# EAGLE library part 29F800 (library ML497A)
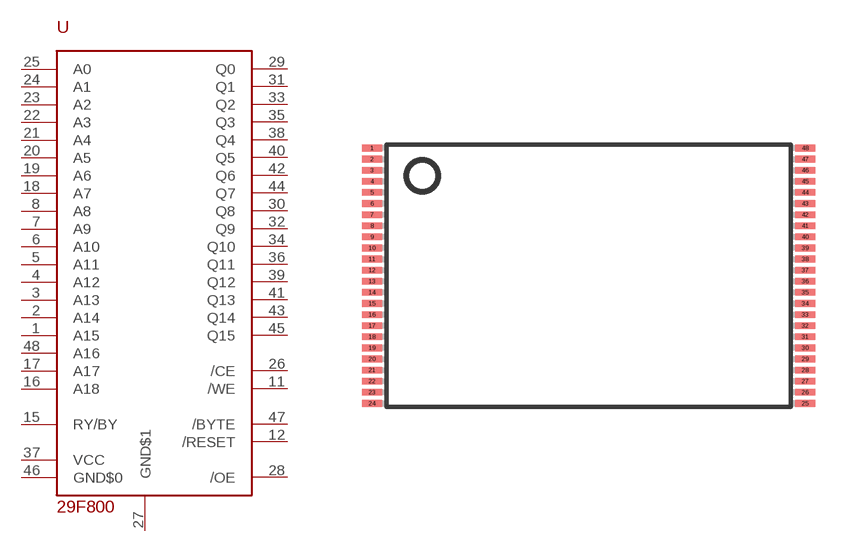
[diagram p3: symbol with the pads of TSOP48; footprint TSOP48]

Designator prefix -

## 29F800  [TSOP48]
1  A15
2  A14
3  A13
4  A12
5  A11
6  A10
7  A9
8  A8
11  /WE
12  /RESET
15  RY/BY
16  A18
17  A17
18  A7
19  A6
20  A5
21  A4
22  A3
23  A2
24  A1
25  A0
26  /CE
27  GND$1
28  /OE
29  Q0
30  Q8
31  Q1
32  Q9
33  Q2
34  Q10
35  Q3
36  Q11
37  VCC
38  Q4
39  Q12
40  Q5
41  Q13
42  Q6
43  Q14
44  Q7
45  Q15
46  GND$0
47  /BYTE
48  A16

## Footprint TSOP48 (pad centres in mm)
smd 0.9 x 0.3: 1 -5.94,5.75; 2 -5.94,5.25; 3 -5.94,4.75; 4 -5.94,4.25; 5 -5.94,3.75; 6 -5.94,3.25; 7 -5.94,2.75; 8 -5.94,2.25; 9 -5.94,1.75; 10 -5.94,1.25; 11 -5.94,0.75; 12 -5.94,0.25; 13 -5.94,-0.25; 14 -5.94,-0.75; 15 -5.94,-1.25; 16 -5.94,-1.75; 17 -5.94,-2.25; 18 -5.94,-2.75; 19 -5.94,-3.25; 20 -5.94,-3.75; 21 -5.94,-4.25; 22 -5.94,-4.75; 23 -5.94,-5.25; 24 -5.94,-5.75; 25 13.56,-5.75; 26 13.56,-5.25; 27 13.56,-4.75; 28 13.56,-4.25; 29 13.56,-3.75; 30 13.56,-3.25; 31 13.56,-2.75; 32 13.56,-2.25; 33 13.56,-1.75; 34 13.56,-1.25; 35 13.56,-0.75; 36 13.56,-0.25; 37 13.56,0.25; 38 13.56,0.75; 39 13.56,1.25; 40 13.56,1.75; 41 13.56,2.25; 42 13.56,2.75; 43 13.56,3.25; 44 13.56,3.75; 45 13.56,4.25; 46 13.56,4.75; 47 13.56,5.25; 48 13.56,5.75